# Altium integrated library molexMiniFitJr_component.IntLib: 1 symbol
Pins are listed as number, name and electrical type; pins without a type are passive.

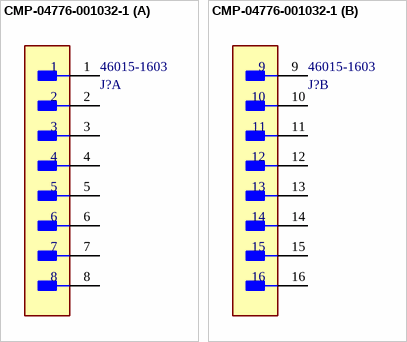
[diagram p0: symbol CMP-04776-001032-1]

## CMP-04776-001032-1
designator J?, comment 46015-1603
CONN HEADER VERT 16POS 4.2MM; Number of Circuits: 16; Current Rating: 13A; Glow Wire Compliant: Non-compliant; Voltage Rating: 600V; Orientation: Vertical; Package Quantity: 1920; Series: 46015; Contact Gender: Male; Contact Material: Copper Alloy; Radiation Hardening: No; Termination: Through Hole; Row Spacing: 4.2mm; Number of Contacts: 16; RoHS Compliant: Yes; Number of Rows: 2; Contact Plating: Tin; Weight: 0.119967oz; Housing Material: Nylon; Pitch: 4.2mm; Halogen Free: Low Halogen; Reach SVHC Compliant: Yes; Packaging: Tray; Number of Positions: 16
footprint FP-46015-1603-MFG
part A pins: 1, 2, 3, 4, 5, 6, 7, 8
part B pins: 9, 10, 11, 12, 13, 14, 15, 16